# Altium footprint library TEN 5.PcbLib: 1 footprints
Each footprint in its own frame and in the unit in brackets; x right, y up, seen from the top. Pads: shape width x height; smd on the part's side, far side on the other; paste and mask are expansions set on the pad; w line width, h text height; cw(c..) or ccw(c..) is an arc to the next point about the centre after c.
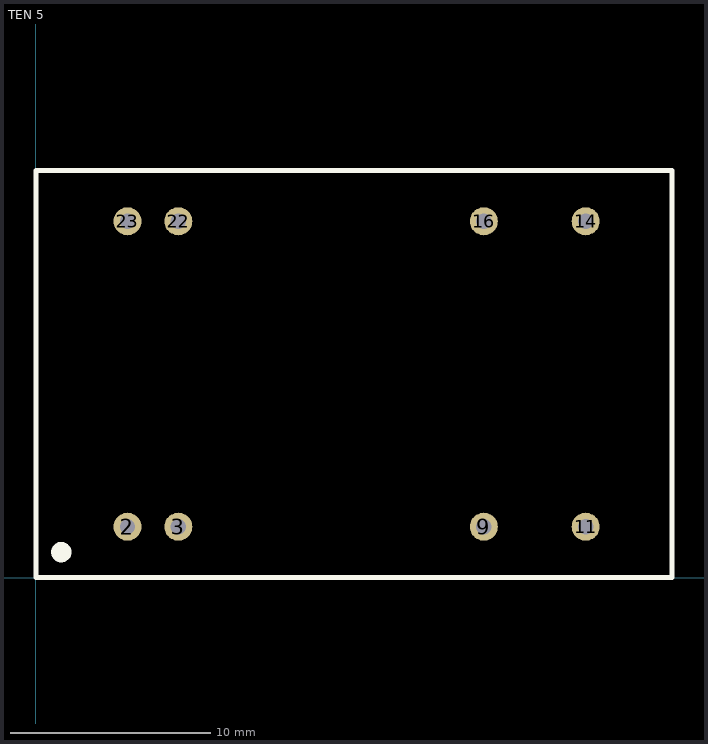
[diagram p0: the footprint, top view; thin cyan lines are the x and y axes]

## TEN 5 [mil]
pads (8):
  round 55 hole 30: 2(180,100) 3(280,100) 9(880,100) 11(1080,100) 14(1080,700) 16(880,700) 22(280,700) 23(180,700)
Top Overlay:
  circle w20: c50,50 r10
  lines w10: 0,0 1250,0 1250,800 0,800 0,0
3D body: height 400, standoff 0, extent 0,0 1250,800